# Altium schematic symbol library 293D476X96R3C2TE3.SchLib: 1 symbol
Pins are listed as number, name and electrical type; pins without a type are passive.

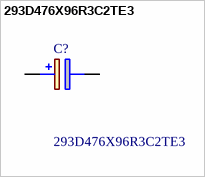
[diagram p0: symbol 293D476X96R3C2TE3]

## 293D476X96R3C2TE3
designator C?
Solid Tantalum Surface Mount Chip Capacitors TANTAMOUNT(TM), Molded Case, Standard Industrial Grade; Manufacturer_Name: Vishay; Geometry.Height: 2.8mm; TME Electronic Components Part Number: *; TME Electronic Components Price/Stock: *; Manufacturer_Part_Number: 293D476X96R3C2TE3; Datasheet Link: http://www.vishay.com/docs/40002/293d.pdf
footprint CAPPM6032X280N
pins: 1 +, 2 -